# Altium integrated library SAMTEC-HMTSW-102-11-X-D-740.IntLib: 1 symbol
Pins are listed as number, name and electrical type; pins without a type are passive.

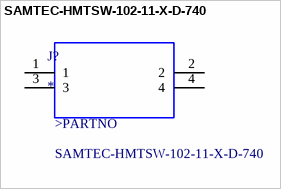
[diagram p0: symbol SAMTEC-HMTSW-102-11-X-D-740]

## SAMTEC-HMTSW-102-11-X-D-740
designator J?
MP: SAMTEC-HMTSW-102-11-X-D-740; Package: None; Price: None; Value: *; Availability: Unavailable
footprint SAMTEC-HMTSW-102-11-X-D-740
pins: 1, 2, 3, 4
text: >PARTNO